# EAGLE library part ADS1210P (library burr-brown)
24-Bit, 16 kSPS ADC
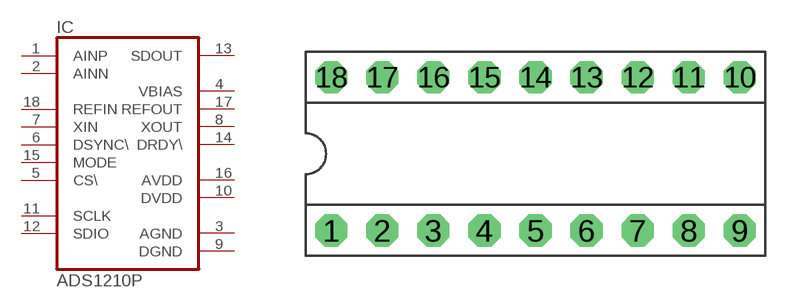
[diagram p59: symbol with the pads of DIP-18; footprint DIP-18]

Designator prefix IC

## ADS1210P  [DIP-18]
1  AINP  in
2  AINN  in
3  AGND  pwr
4  VBIAS  out
5  CS\  in
6  DSYNC\  in
7  XIN  in
8  XOUT  out
9  DGND  pwr
10  DVDD  pwr
11  SCLK
12  SDIO
13  SDOUT  out
14  DRDY\  out
15  MODE  in
16  AVDD  pwr
17  REFOUT  out
18  REFIN  in

## Footprint DIP-18 (pad centres in mm)
drill 0.813 pad 1.6 octagon: 1 -10.16,-3.81; 2 -7.62,-3.81; 3 -5.08,-3.81; 4 -2.54,-3.81; 5 0,-3.81; 6 2.54,-3.81; 7 5.08,-3.81; 8 7.62,-3.81; 9 10.16,-3.81; 10 10.16,3.81; 11 7.62,3.81; 12 5.08,3.81; 13 2.54,3.81; 14 0,3.81; 15 -2.54,3.81; 16 -5.08,3.81; 17 -7.62,3.81; 18 -10.16,3.81